# Altium schematic symbol library fiducial.SchLib: 1 symbol
Pins are listed as number, name and electrical type; pins without a type are passive.

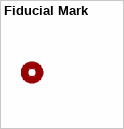
[diagram p0: symbol Fiducial Mark]

## Fiducial Mark
designator FID?  (no BOM)
FIducial Mark (concentric 1 mm, 3 mm)
footprint Fiducial_1_3_mm